# EAGLE library part SDMMC (library m3space)
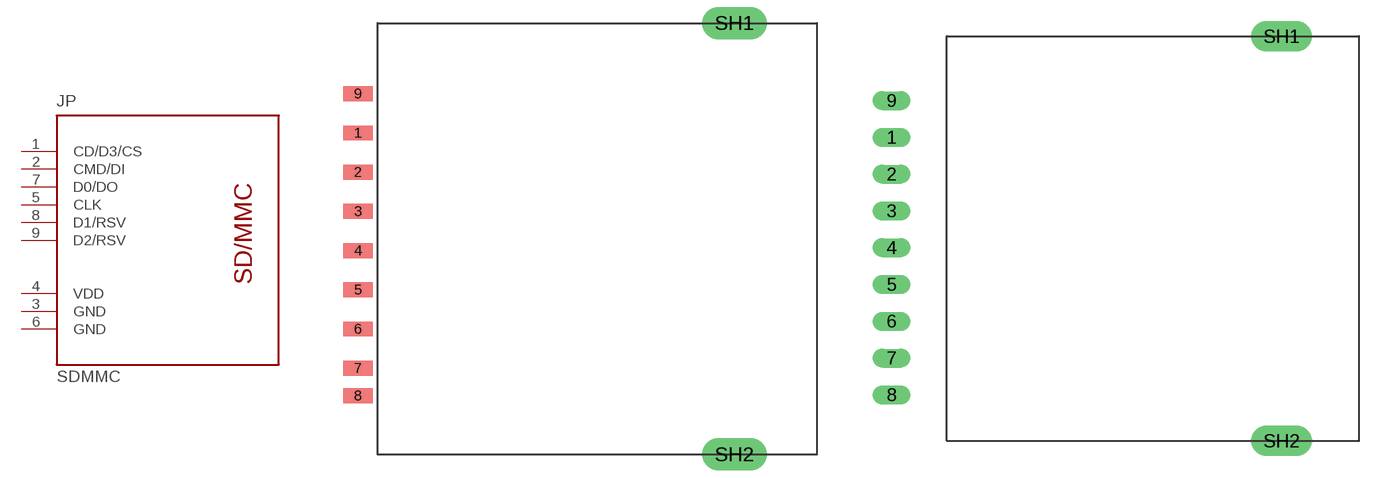
[diagram p0: symbol with the pads of SDMMC; footprints SDMMC, SDMMC-P]

Designator prefix JP

## SDMMC  [SDMMC]
1  CD/D3/CS
2  CMD/DI
3  GND  pwr
4  VDD  pwr
5  CLK  in
6  GND  pwr
7  D0/DO
8  D1/RSV
9  D2/RSV
SH1  GND  pwr
SH2  GND  pwr

## SDMMCP  [SDMMC-P]
Pads as for SDMMC

## Footprint SDMMC (pad centres in mm)
SD/MMC-Slot
smd 1.93 x 0.965: 1 -15.24,6.858; 2 -15.24,4.318; 3 -15.24,1.778; 4 -15.24,-0.762; 5 -15.24,-3.302; 6 -15.24,-5.842; 7 -15.24,-8.382; 8 -15.24,-10.16; 9 -15.24,9.398
drill 1.4 long: SH1 9.144,13.97; SH2 9.144,-13.97

## Footprint SDMMC-P (pad centres in mm)
SD/MMC-Slot
drill 0.8 long: 1 -17.78,6.985; 2 -17.78,4.445; 3 -17.78,1.905; 4 -17.78,-0.635; 5 -17.78,-3.175; 6 -17.78,-5.715; 7 -17.78,-8.255; 8 -17.78,-10.795; 9 -17.78,9.525
drill 1.4 long: SH1 9.144,13.97; SH2 9.144,-13.97